# Altium schematic symbol library Comparator.SchLib: 7 symbols
Pins are listed as number, name and electrical type; pins without a type are passive.

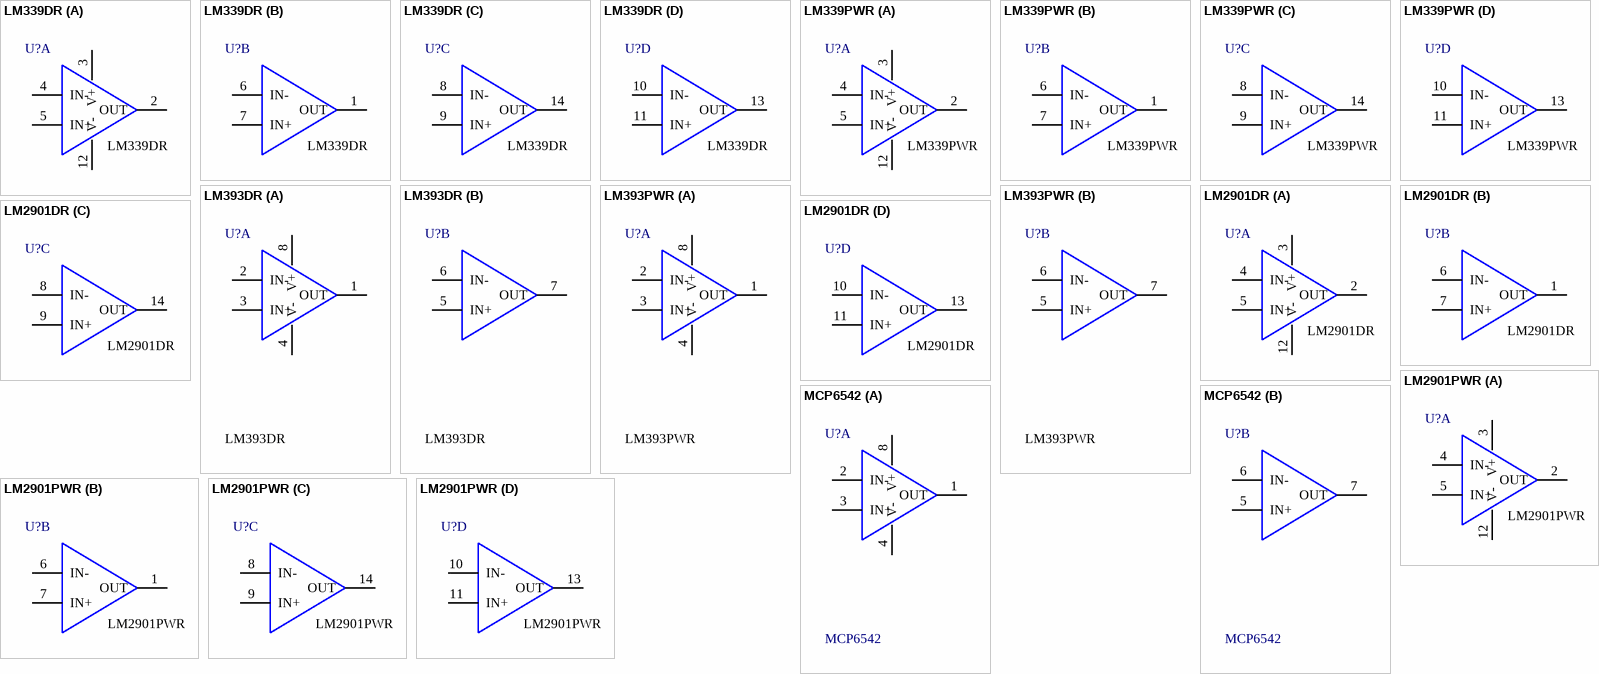
[diagram p0: symbols LM339DR to MCP6542]

## LM339DR
designator U?  Global part number: LM339DR
Voltage Comparator; Manufacture: Texas Instruments; Mount type: SMT; Size: SOIC-14; Series: Voltage Comparator
footprint SOIC-14 150MIL
part A pins: 2 OUT, 3 V+, 4 IN-, 5 IN+, 12 V-
part B pins: 1 OUT, 6 IN-, 7 IN+
part C pins: 8 IN-, 9 IN+, 14 OUT
part D pins: 10 IN-, 11 IN+, 13 OUT

## LM339PWR
designator U?  Global part number: LM339PWR
Voltage Comparator; Manufacture: Texas Instruments; Mount type: SMT; Size: TSSOP-14; Series: Voltage Comparator
footprint TSSOP-14
part A pins: 2 OUT, 3 V+, 4 IN-, 5 IN+, 12 V-
part B pins: 1 OUT, 6 IN-, 7 IN+
part C pins: 8 IN-, 9 IN+, 14 OUT
part D pins: 10 IN-, 11 IN+, 13 OUT

## LM393DR
designator U?  Global part number: LM393DR
Voltage Comparator; Manufacture: Texas Instruments; Mount type: SMT; Size: SOIC-8; Series: Voltage Comparator
footprint SOIC-8
part A pins: 1 OUT, 2 IN-, 3 IN+, 4 V-, 8 V+
part B pins: 5 IN+, 6 IN-, 7 OUT

## LM393PWR
designator U?  Global part number: LM393PWR
Voltage Comparator; Manufacture: Texas Instruments; Mount type: SMT; Size: TSSOP-8; Series: Voltage Comparator
footprint TSSOP-8
part A pins: 1 OUT, 2 IN-, 3 IN+, 4 V-, 8 V+
part B pins: 5 IN+, 6 IN-, 7 OUT

## LM2901DR
designator U?  Global part number: LM2901DR
Voltage Comparator; Manufacture: Texas Instruments; Mount type: SMT; Size: SOIC-14; Series: Voltage Comparator
footprint SOIC-16 150MIL
part A pins: 2 OUT, 3 V+, 4 IN-, 5 IN+, 12 V-
part B pins: 1 OUT, 6 IN-, 7 IN+
part C pins: 8 IN-, 9 IN+, 14 OUT
part D pins: 10 IN-, 11 IN+, 13 OUT

## LM2901PWR
designator U?  Global part number: LM2901PWR
Voltage Comparator; Manufacture: Texas Instruments; Mount type: SMT; Size: TSSOP-14; Series: Voltage Comparator
footprint TSSOP-14
part A pins: 2 OUT, 3 V+, 4 IN-, 5 IN+, 12 V-
part B pins: 1 OUT, 6 IN-, 7 IN+
part C pins: 8 IN-, 9 IN+, 14 OUT
part D pins: 10 IN-, 11 IN+, 13 OUT

## MCP6542
designator U?  Global part number: MCP6542
Voltage Comparator; Manufacture: MICROCHIP; Mount type: SMT; Size: SOIC-8; Series: Voltage Comparator
footprint SOIC-8
part A pins: 1 OUT, 2 IN-, 3 IN+, 4 V-, 8 V+
part B pins: 5 IN+, 6 IN-, 7 OUT